# Altium schematic symbol library STM32L073CZT6.SchLib: 1 symbol
Pins are listed as number, name and electrical type; pins without a type are passive.

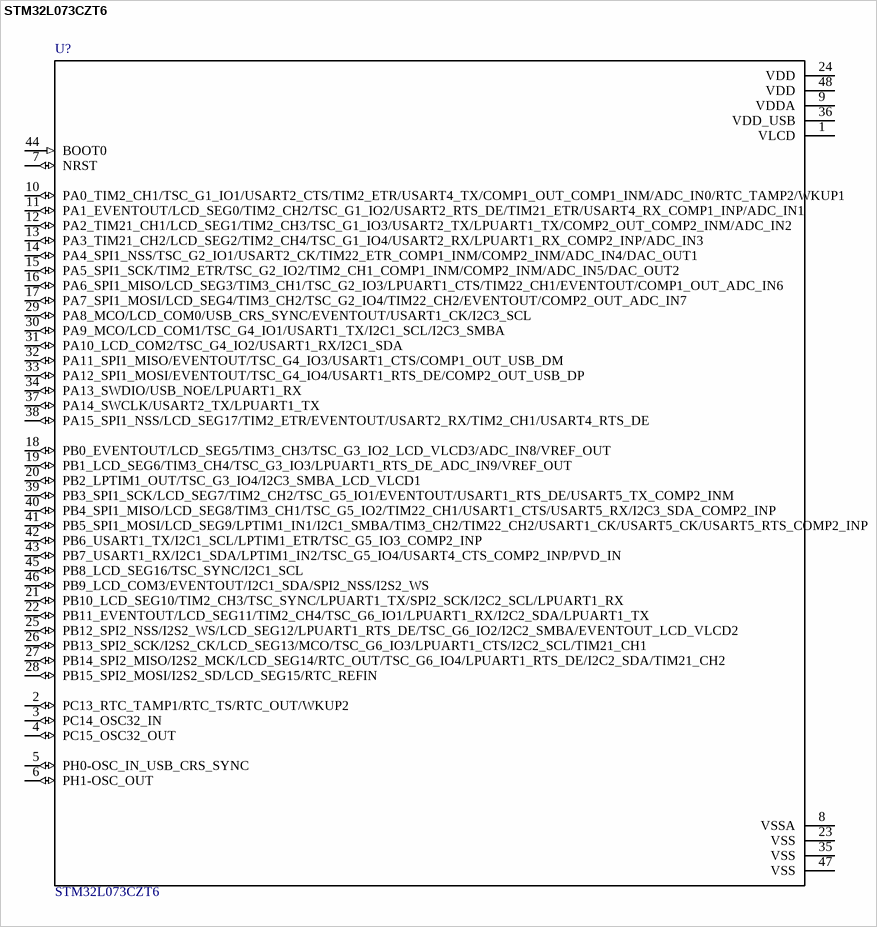
[diagram p0: symbol STM32L073CZT6]

## STM32L073CZT6
designator U?
/ ARMВ® CortexВ®-M0+ STM32 L0 Microcontroller IC 32-Bit 32MHz 192KB _192K x 8_ FLASH 48-LQFP /; MF: STMicroelectronics; SnapEDA_Link: https://www.snapeda.com/parts/STM32L073CZT6/STMicroelectronics/view-part/?ref=snap; Digi-Key_Purchase_URL: https://www.digikey.com/product-detail/en/stmicroelectronics/STM32L073CZT6/497-17506-ND/8024098?utm_source=snapeda&utm_medium=aggregator&utm_campaign=symbol; MP: STM32L073CZT6; Package: LQFP-48 STMicroelectronics; Digi-Key_Part_Number: 497-17506-ND; Value: *
footprint *QFP50P900X900X160-48N
pins: 1 VLCD (power), 2 PC13_RTC_TAMP1/RTC_TS/RTC_OUT/WKUP2 (io), 3 PC14_OSC32_IN (io), 4 PC15_OSC32_OUT (io), 5 PH0-OSC_IN_USB_CRS_SYNC (io), 6 PH1-OSC_OUT (io), 7 NRST (io), 8 VSSA (power), 9 VDDA (power), 10 PA0_TIM2_CH1/TSC_G1_IO1/USART2_CTS/TIM2_ETR/USART4_TX/COMP1_OUT_COMP1_INM/ADC_IN0/RTC_TAMP2/WKUP1 (io), 11 PA1_EVENTOUT/LCD_SEG0/TIM2_CH2/TSC_G1_IO2/USART2_RTS_DE/TIM21_ETR/USART4_RX_COMP1_INP/ADC_IN1 (io), 12 PA2_TIM21_CH1/LCD_SEG1/TIM2_CH3/TSC_G1_IO3/USART2_TX/LPUART1_TX/COMP2_OUT_COMP2_INM/ADC_IN2 (io), 13 PA3_TIM21_CH2/LCD_SEG2/TIM2_CH4/TSC_G1_IO4/USART2_RX/LPUART1_RX_COMP2_INP/ADC_IN3 (io), 14 PA4_SPI1_NSS/TSC_G2_IO1/USART2_CK/TIM22_ETR_COMP1_INM/COMP2_INM/ADC_IN4/DAC_OUT1 (io), 15 PA5_SPI1_SCK/TIM2_ETR/TSC_G2_IO2/TIM2_CH1_COMP1_INM/COMP2_INM/ADC_IN5/DAC_OUT2 (io), 16 PA6_SPI1_MISO/LCD_SEG3/TIM3_CH1/TSC_G2_IO3/LPUART1_CTS/TIM22_CH1/EVENTOUT/COMP1_OUT_ADC_IN6 (io), 17 PA7_SPI1_MOSI/LCD_SEG4/TIM3_CH2/TSC_G2_IO4/TIM22_CH2/EVENTOUT/COMP2_OUT_ADC_IN7 (io), 18 PB0_EVENTOUT/LCD_SEG5/TIM3_CH3/TSC_G3_IO2_LCD_VLCD3/ADC_IN8/VREF_OUT (io), 19 PB1_LCD_SEG6/TIM3_CH4/TSC_G3_IO3/LPUART1_RTS_DE_ADC_IN9/VREF_OUT (io), 20 PB2_LPTIM1_OUT/TSC_G3_IO4/I2C3_SMBA_LCD_VLCD1 (io), 21 PB10_LCD_SEG10/TIM2_CH3/TSC_SYNC/LPUART1_TX/SPI2_SCK/I2C2_SCL/LPUART1_RX (io), 22 PB11_EVENTOUT/LCD_SEG11/TIM2_CH4/TSC_G6_IO1/LPUART1_RX/I2C2_SDA/LPUART1_TX (io), 23 VSS (power), 24 VDD (power), 25 PB12_SPI2_NSS/I2S2_WS/LCD_SEG12/LPUART1_RTS_DE/TSC_G6_IO2/I2C2_SMBA/EVENTOUT_LCD_VLCD2 (io), 26 PB13_SPI2_SCK/I2S2_CK/LCD_SEG13/MCO/TSC_G6_IO3/LPUART1_CTS/I2C2_SCL/TIM21_CH1 (io), 27 PB14_SPI2_MISO/I2S2_MCK/LCD_SEG14/RTC_OUT/TSC_G6_IO4/LPUART1_RTS_DE/I2C2_SDA/TIM21_CH2 (io), 28 PB15_SPI2_MOSI/I2S2_SD/LCD_SEG15/RTC_REFIN (io), 29 PA8_MCO/LCD_COM0/USB_CRS_SYNC/EVENTOUT/USART1_CK/I2C3_SCL (io), 30 PA9_MCO/LCD_COM1/TSC_G4_IO1/USART1_TX/I2C1_SCL/I2C3_SMBA (io), 31 PA10_LCD_COM2/TSC_G4_IO2/USART1_RX/I2C1_SDA (io), 32 PA11_SPI1_MISO/EVENTOUT/TSC_G4_IO3/USART1_CTS/COMP1_OUT_USB_DM (io), 33 PA12_SPI1_MOSI/EVENTOUT/TSC_G4_IO4/USART1_RTS_DE/COMP2_OUT_USB_DP (io), 34 PA13_SWDIO/USB_NOE/LPUART1_RX (io), 35 VSS (power), 36 VDD_USB (power), 37 PA14_SWCLK/USART2_TX/LPUART1_TX (io), 38 PA15_SPI1_NSS/LCD_SEG17/TIM2_ETR/EVENTOUT/USART2_RX/TIM2_CH1/USART4_RTS_DE (io), 39 PB3_SPI1_SCK/LCD_SEG7/TIM2_CH2/TSC_G5_IO1/EVENTOUT/USART1_RTS_DE/USART5_TX_COMP2_INM (io), 40 PB4_SPI1_MISO/LCD_SEG8/TIM3_CH1/TSC_G5_IO2/TIM22_CH1/USART1_CTS/USART5_RX/I2C3_SDA_COMP2_INP (io), 41 PB5_SPI1_MOSI/LCD_SEG9/LPTIM1_IN1/I2C1_SMBA/TIM3_CH2/TIM22_CH2/USART1_CK/USART5_CK/USART5_RTS_COMP2_INP (io), 42 PB6_USART1_TX/I2C1_SCL/LPTIM1_ETR/TSC_G5_IO3_COMP2_INP (io), 43 PB7_USART1_RX/I2C1_SDA/LPTIM1_IN2/TSC_G5_IO4/USART4_CTS_COMP2_INP/PVD_IN (io), 44 BOOT0 (in), 45 PB8_LCD_SEG16/TSC_SYNC/I2C1_SCL (io), 46 PB9_LCD_COM3/EVENTOUT/I2C1_SDA/SPI2_NSS/I2S2_WS (io), 47 VSS (power), 48 VDD (power)